# Altium schematic symbol library SCH - MCU - ATMEGA - MICROCHIP ATMEGA32U4-AU TQFP44.SchLib: 1 symbol
Pins are listed as number, name and electrical type; pins without a type are passive.

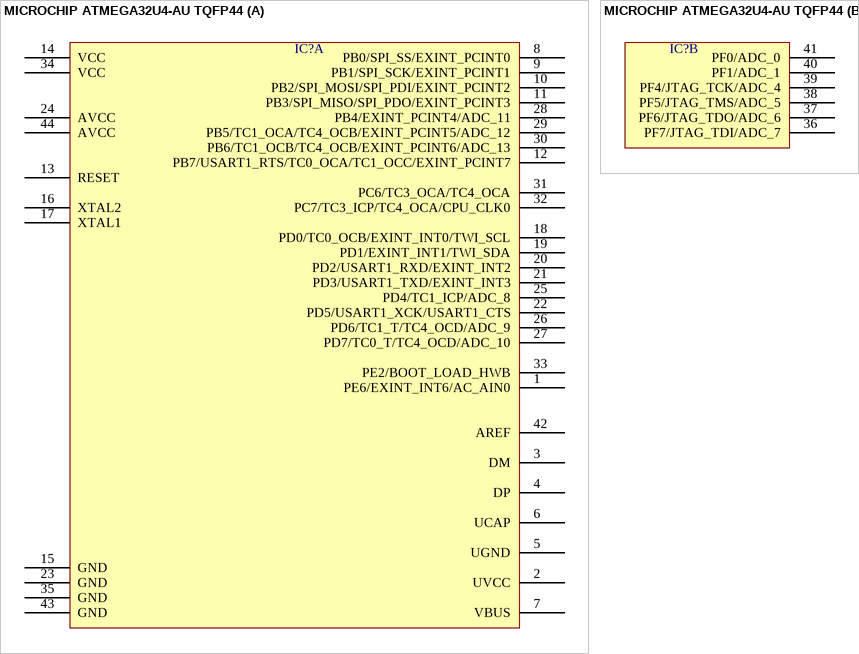
[diagram p0: symbol MICROCHIP ATMEGA32U4-AU TQFP44]

## MICROCHIP ATMEGA32U4-AU TQFP44
designator IC?  (value not drawn)
part A pins: 1 PE6/EXINT_INT6/AC_AIN0, 2 UVCC, 3 DM, 4 DP, 5 UGND, 6 UCAP, 7 VBUS, 8 PB0/SPI_SS/EXINT_PCINT0, 9 PB1/SPI_SCK/EXINT_PCINT1, 10 PB2/SPI_MOSI/SPI_PDI/EXINT_PCINT2, 11 PB3/SPI_MISO/SPI_PDO/EXINT_PCINT3, 12 PB7/USART1_RTS/TC0_OCA/TC1_OCC/EXINT_PCINT7, 13 RESET, 14 VCC, 15 GND, 16 XTAL2, 17 XTAL1, 18 PD0/TC0_OCB/EXINT_INT0/TWI_SCL, 19 PD1/EXINT_INT1/TWI_SDA, 20 PD2/USART1_RXD/EXINT_INT2, 21 PD3/USART1_TXD/EXINT_INT3, 22 PD5/USART1_XCK/USART1_CTS, 23 GND, 24 AVCC, 25 PD4/TC1_ICP/ADC_8, 26 PD6/TC1_T/TC4_OCD/ADC_9, 27 PD7/TC0_T/TC4_OCD/ADC_10, 28 PB4/EXINT_PCINT4/ADC_11, 29 PB5/TC1_OCA/TC4_OCB/EXINT_PCINT5/ADC_12, 30 PB6/TC1_OCB/TC4_OCB/EXINT_PCINT6/ADC_13, 31 PC6/TC3_OCA/TC4_OCA, 32 PC7/TC3_ICP/TC4_OCA/CPU_CLK0, 33 PE2/BOOT_LOAD_HWB, 34 VCC, 35 GND, 42 AREF, 43 GND, 44 AVCC
part B pins: 36 PF7/JTAG_TDI/ADC_7, 37 PF6/JTAG_TDO/ADC_6, 38 PF5/JTAG_TMS/ADC_5, 39 PF4/JTAG_TCK/ADC_4, 40 PF1/ADC_1, 41 PF0/ADC_0